# Altium schematic symbol library SCH - OPAMP - MICROCHIP MCP6V92-E-MS.SCHLIB: 1 symbol
Pins are listed as number, name and electrical type; pins without a type are passive.

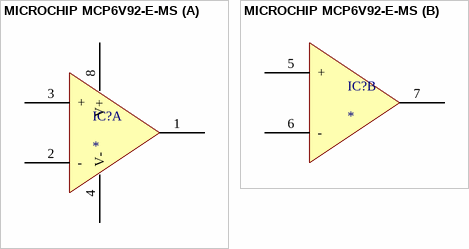
[diagram p0: symbol MICROCHIP MCP6V92-E-MS]

## MICROCHIP MCP6V92-E-MS
designator IC?
part A pins: 1 OUT, 2 -, 3 +, 4 V-, 8 V+
part B pins: 5 +, 6 -, 7 OUT